# Altium footprint library all_kalex_Library.PcbLib: 234 footprints (part 15 of 15)
Each footprint in its own frame and in the unit in brackets; x right, y up, seen from the top. Pads: shape width x height; smd on the part's side, far side on the other; paste and mask are expansions set on the pad; w line width, h text height; cw(c..) or ccw(c..) is an arc to the next point about the centre after c.
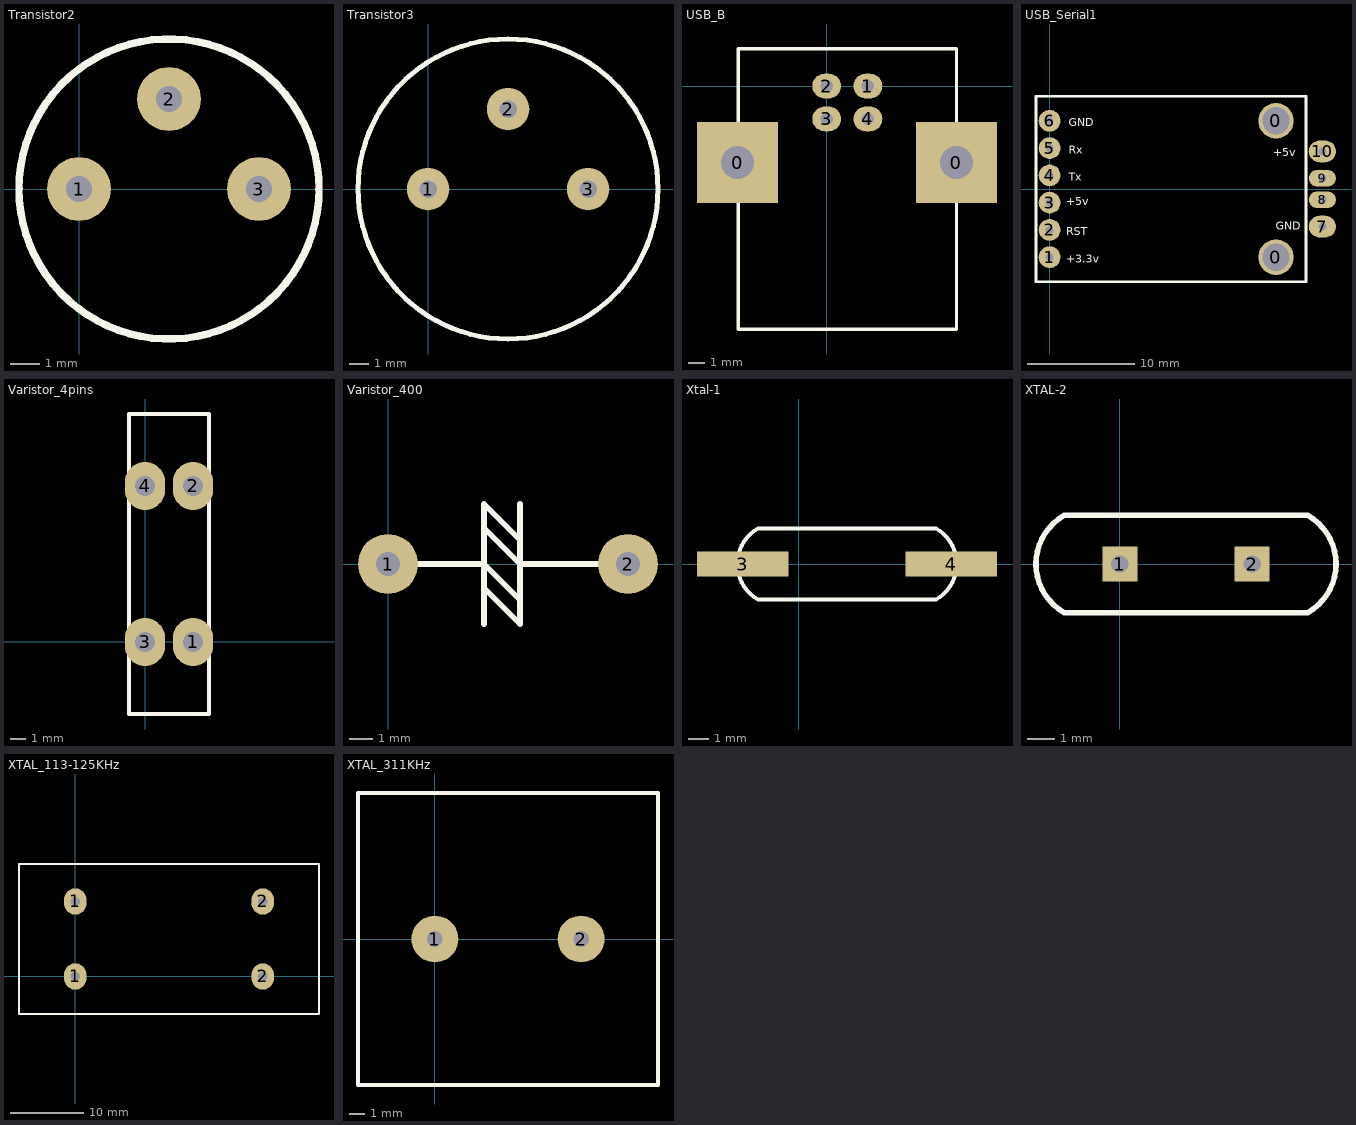
[diagram p14: the footprints below, top view; thin cyan lines are the x and y axes]

## Transistor2 [mil]
pads (3):
  round 85 hole 35: 1(0,0) 2(120,120) 3(240,0)
Top Overlay:
  circle w10: c120,0 r200

## Transistor3 [mil]
pads (3):
  round 85 hole 35: 1(0,0) 2(160,160) 3(320,0)
Top Overlay:
  circle w10: c160,0 r300

## USB_B [mil] "USB Connector type B"
pads (6):
  rect 196.85x196.85 hole 80: 0(-216.54,-186) 0(314.96,-186)
  oval 70x60 hole 30: 1(100,0) 2(0,0) 3(0,-80) 4(100,-80)
Top Overlay:
  lines w8: -215,-590.55 315,-590.55 315,90.55 -215,90.55 -215,-590.55

## USB_Serial1 [mil]
pads (12):
  round 130 hole 100: 0(830,-250) 0(830,250)
  round 80 hole 30: 1(0,-250) 2(0,-150) 3(0,-50) 4(0,50) 5(0,150) 6(0,250)
  oval 100x80 hole 30: 7(1000,-137.8) 10(1000,137.8)
  oval 100x60 hole 30: 8(1000,-39.37) 9(1000,39.37)
Top Overlay:
  lines w10: -50,-340 940,-340 940,340 -50,340 -50,-340
  text "+3.3v" at 60,-270 h30
  text "RST" at 60,-170 h30
  text "GND" at 70,230 h30
  text "Rx" at 70,130 h30
  text "Tx" at 70,30 h30
  text "+5v" at 60,-60 h30
  text "GND" at 830,-150 h30
  text "+5v" at 820,120 h30

## Varistor_4pins [mil]
pads (4):
  oval 100x120 hole 50: 1(120,-1) 2(120,389) 3(0,-1) 4(0,389)
Top Overlay:
  lines w10: -40,-181 -40,569 160,569 160,-181 -40,-181

## Varistor_400 [mil]
pads (2):
  round 100 hole 40: 1(0,0) 2(400,0)
Top Overlay:
  lines w10: 0,0 160,0 220,-60 220,-40 ; 160,-100 160,100 220,40 220,0 ; 160,-40 220,-100 220,100 ; 160,20 160,60 220,0 ; 400,0 220,0

## Xtal-1 [mil]
pads (2):
  rect 180x50 smd: 3(-110,0) 4(300,0)
Top Overlay:
  lines w8: -80,-70 cw(c-40,0) -80,70 270,70 cw(c230,0) 270,-70 -80,-70

## XTAL-2 [mil]
pads (2):
  rect 50x50 hole 25: 1(0,0) 2(190,0)
Top Overlay:
  lines w8: -80,-70 cw(c-40,0) -80,70 270,70 cw(c230,0) 270,-70 -80,-70

## XTAL_113-125KHz [mil]
pads (4):
  oval 120x140 hole 50: 1(0,0) 1(0,400) 2(1000,0) 2(1000,400)
Top Overlay:
  lines w10: -300,-200 -300,600 1300,600 1300,-200 -300,-200

## XTAL_311KHz [mil]
pads (2):
  round 120 hole 40: 1(0,0) 2(374.02,0)
Top Overlay:
  lines w10: -196.85,-374.02 570.87,-374.02 570.87,374.02 -196.85,374.02 -196.85,-374.02